# Altium footprint library Bateria.PcbLib: 1 footprints
Each footprint in its own frame and in the unit in brackets; x right, y up, seen from the top. Pads: shape width x height; smd on the part's side, far side on the other; paste and mask are expansions set on the pad; w line width, h text height; cw(c..) or ccw(c..) is an arc to the next point about the centre after c.
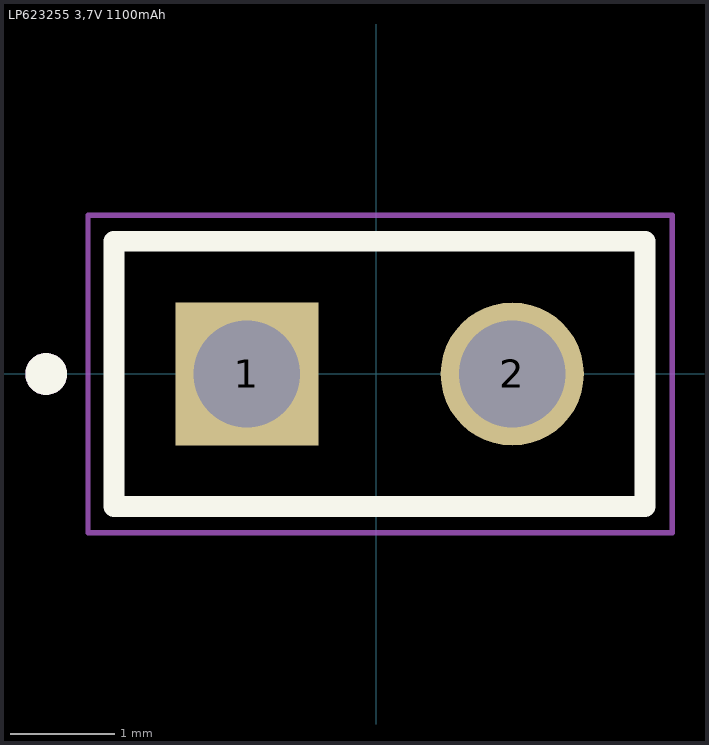
[diagram p0: the footprint, top view; thin cyan lines are the x and y axes]

## LP623255 3,7V 1100mAh [mm]
pads (2):
  rect 1.37x1.37 hole 1.02: 1(-1.24,0)
  round 1.37 hole 1.02: 2(1.3,0)
Top Overlay:
  circle w0.2: c-3.16,0 r0.1
  lines w0.2: 2.57,-1.27 2.57,1.27 ; 2.57,-1.27 -2.51,-1.27 -2.51,1.27 2.57,1.27
Mechanical 13:
  circle w0.2: c-3.16,0 r0.1
  lines w0.1: 2.57,-1.27 2.57,1.27 ; 2.57,-1.27 -2.51,-1.27 ; 2.57,1.27 -2.51,1.27 ; -2.51,-1.27 -2.51,1.27 ; -2.51,-1.27 -2.51,1.27
Mechanical 15:
  lines w0.05: -2.76,-1.52 2.831,-1.52 2.831,1.52 -2.76,1.52 -2.76,-1.52